# Altium footprint library FP-SMD-Passive.PcbLib: 73 footprints (part 2 of 5)
Each footprint in its own frame and in the unit in brackets; x right, y up, seen from the top. Pads: shape width x height; smd on the part's side, far side on the other; paste and mask are expansions set on the pad; w line width, h text height; cw(c..) or ccw(c..) is an arc to the next point about the centre after c.
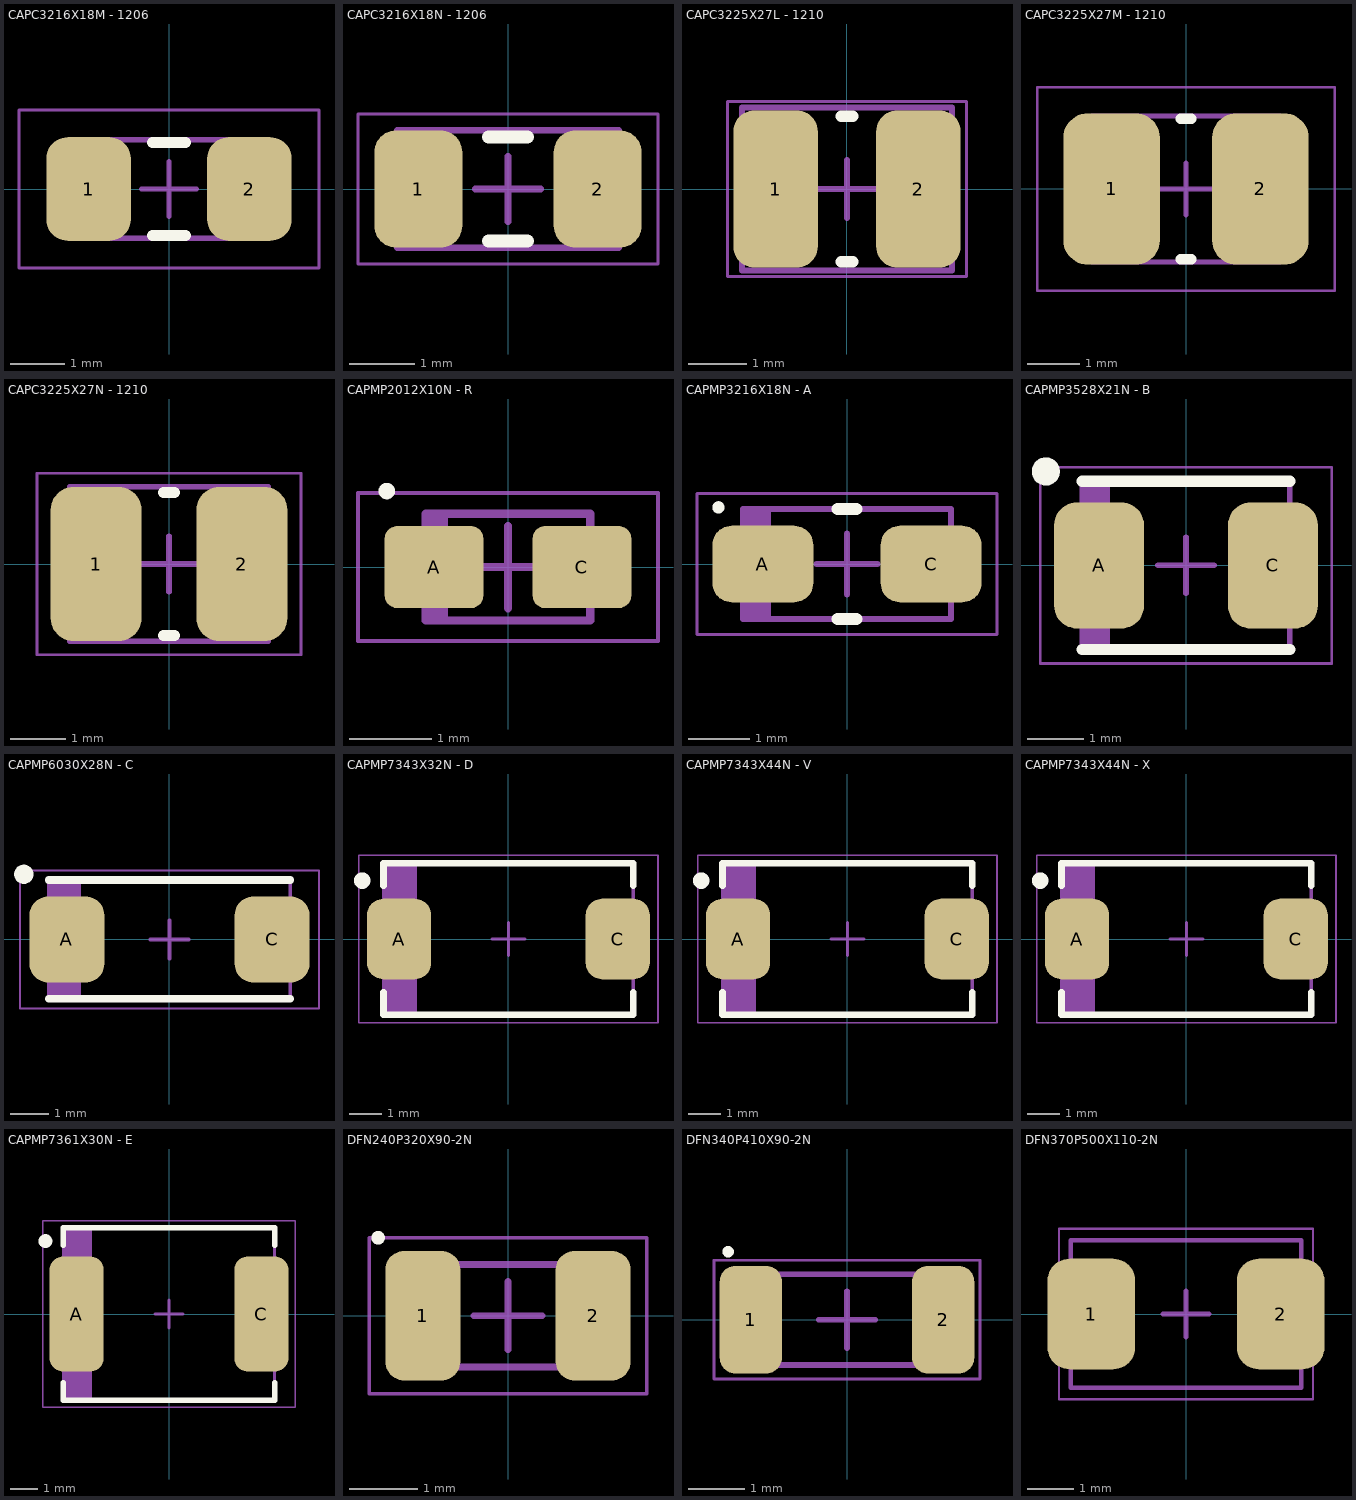
[diagram p1: the footprints below, top view; thin cyan lines are the x and y axes]

## CAPC3216X18M - 1206 [mm] "Chip Capacitor, 2-Leads, Body 3/20x1/60mm, IPC Low Density"
height 1.8
pads (2):
  rrect50% 1.55x1.9 smd: 1(-1.475,0) 2(1.475,0)
Top Overlay:
  lines w0.2: -0.3,-0.85 0.3,-0.85 ; -0.3,0.85 0.3,0.85
Top Courtyard:
  lines w0.05: -2.75,-1.45 2.75,-1.45 2.75,1.45 -2.75,1.45 -2.75,-1.45
  lines w0.1: -0.5,0 0.5,0 ; 0,-0.5 0,0.5
Top Assembly:
  lines w0.1: -1.7,-0.9 1.7,-0.9 1.7,0.9 -1.7,0.9 -1.7,-0.9
  text "'.Designator'" at 0.1,0.3 h0.6
3D body "CAPC3216X18M.step": height 1.8, standoff 0, extent -1.7,-0.9 1.7,0.9

## CAPC3216X18N - 1206 [mm] "Chip Capacitor, 2-Leads, Body 3/20x1/60mm, IPC Medium Density"
height 1.8
pads (2):
  rrect50% 1.35x1.8 smd: 1(-1.375,0) 2(1.375,0)
Top Overlay:
  lines w0.2: -0.3,-0.8 0.3,-0.8 ; -0.3,0.8 0.3,0.8
Top Courtyard:
  lines w0.05: -2.3,-1.15 2.3,-1.15 2.3,1.15 -2.3,1.15 -2.3,-1.15
  lines w0.1: -0.5,0 0.5,0 ; 0,-0.5 0,0.5
Top Assembly:
  lines w0.1: -1.7,-0.9 1.7,-0.9 1.7,0.9 -1.7,0.9 -1.7,-0.9
  text "'.Designator'" at 0.1,0.3 h0.6
3D body "CAPC3216X18N.step": height 1.8, standoff 0, extent -1.7,-0.9 1.7,0.9

## CAPC3225X27L - 1210 [mm] "Chip Capacitor, 2-Leads, Body 3/20x2/50mm, IPC High Density"
height 2.7
pads (2):
  rrect50% 1.45x2.7 smd: 1(-1.225,0) 2(1.225,0)
Top Overlay:
  lines w0.2: -0.1,-1.25 0.1,-1.25 ; -0.1,1.25 0.1,1.25
Top Courtyard:
  lines w0.05: -2.05,-1.5 2.05,-1.5 2.05,1.5 -2.05,1.5 -2.05,-1.5
  lines w0.1: -0.5,0 0.5,0 ; 0,-0.5 0,0.5
Top Assembly:
  lines w0.1: -1.8,-1.4 1.8,-1.4 1.8,1.4 -1.8,1.4 -1.8,-1.4
  text "'.Designator'" at 0.1,0.3 h0.6
3D body "CAPC3225X27L - 1210.step": height 2.7, standoff 0, extent -1.8,-1.4 1.8,1.4

## CAPC3225X27M - 1210 [mm] "Chip Capacitor, 2-Leads, Body 3/20x2/50mm, IPC Low Density"
height 2.7
pads (2):
  rrect50% 1.85x2.9 smd: 1(-1.425,0) 2(1.425,0)
Top Overlay:
  lines w0.2: -0.1,-1.35 0.1,-1.35 ; -0.1,1.35 0.1,1.35
Top Courtyard:
  lines w0.05: -2.85,-1.95 2.85,-1.95 2.85,1.95 -2.85,1.95 -2.85,-1.95
  lines w0.1: -0.5,0 0.5,0 ; 0,-0.5 0,0.5
Top Assembly:
  lines w0.1: -1.8,-1.4 1.8,-1.4 1.8,1.4 -1.8,1.4 -1.8,-1.4
  text "'.Designator'" at 0.1,0.3 h0.6
3D body "CAPC3225X27M - 1210.step": height 2.7, standoff 0, extent -1.8,-1.4 1.8,1.4

## CAPC3225X27N - 1210 [mm] "Chip Capacitor, 2-Leads, Body 3/20x2/50mm, IPC Medium Density"
height 2.7
pads (2):
  rrect50% 1.65x2.8 smd: 1(-1.325,0) 2(1.325,0)
Top Overlay:
  lines w0.2: -0.1,-1.3 0.1,-1.3 ; -0.1,1.3 0.1,1.3
Top Courtyard:
  lines w0.05: -2.4,-1.65 2.4,-1.65 2.4,1.65 -2.4,1.65 -2.4,-1.65
  lines w0.1: -0.5,0 0.5,0 ; 0,-0.5 0,0.5
Top Assembly:
  lines w0.1: -1.8,-1.4 1.8,-1.4 1.8,1.4 -1.8,1.4 -1.8,-1.4
  text "'.Designator'" at 0.1,0.3 h0.6
3D body "CAPC3225X27N - 1210.step": height 2.7, standoff 0, extent -1.8,-1.4 1.8,1.4

## CAPMP2012X10N - R [mm] "Molded Capacitor, 2-Leads, Body 2/00x1/25mm, IPC Medium Density"
height 1.2
pads (2):
  rrect30% 1.2x1 smd: A(-0.9,0) C(0.9,0)
Top Overlay:
  circle w0.1: c-1.475,0.925 r0.05
Top Courtyard:
  lines w0.05: -1.825,-0.9 -1.825,0.9 1.825,0.9 1.825,-0.9 -1.825,-0.9
  lines w0.1: -0.5,0 0.5,0 ; 0,-0.5 0,0.5
Top Assembly:
  rectangle: -1,-0.65 -0.731,0.65
  lines w0.1: -1,-0.65 -1,0.65 1,0.65 1,-0.65 -1,-0.65
  text "'.Designator'" at 0.12,0.353 h0.7
3D body "User Library-CaseR_2012-12.STEP": height 1.2, standoff 0, extent -1,-0.65 1,0.65

## CAPMP3216X18N - A [mm] "Molded Capacitor, 2-Leads, Body 3/20x1/60mm, IPC Medium Density"
height 1.8
pads (2):
  rrect50% 1.65x1.25 smd: A(-1.375,0) C(1.375,0)
Top Overlay:
  circle w0.1: c-2.1,0.925 r0.05
  lines w0.2: -0.15,-0.9 0.15,-0.9 ; -0.15,0.9 0.15,0.9
Top Courtyard:
  lines w0.05: -2.45,-1.15 2.45,-1.15 2.45,1.15 -2.45,1.15 -2.45,-1.15
  lines w0.1: -0.5,0 0.5,0 ; 0,-0.5 0,0.5
Top Assembly:
  rectangle: -1.7,-0.9 -1.243,0.9
  lines w0.1: -1.7,-0.9 1.7,-0.9 1.7,0.9 -1.7,0.9 -1.7,-0.9
  text "'.Designator'" at 0.12,0.353 h0.7
3D body "User Library-CaseA_3216-18.STEP": height 1.6, standoff 0, extent -1.6,-0.8 1.6,0.8

## CAPMP3528X21N - B [mm] "Molded Capacitor, 2-Leads, Body 3/50x2/80mm, IPC Medium Density"
height 2.1
pads (2):
  rrect50% 1.6x2.25 smd: A(-1.55,0) C(1.55,0)
Top Overlay:
  circle w0.25: c-2.5,1.675 r0.125
  lines w0.2: -1.85,-1.5 1.85,-1.5 ; -1.85,1.5 1.85,1.5
Top Courtyard:
  lines w0.05: -2.6,-1.75 -2.6,1.75 2.6,1.75 2.6,-1.75 -2.6,-1.75
  lines w0.1: -0.5,0 0.5,0 ; 0,-0.5 0,0.5
Top Assembly:
  rectangle: -1.85,-1.5 -1.352,1.5
  lines w0.1: -1.85,-1.5 -1.85,1.5 1.85,1.5 1.85,-1.5 -1.85,-1.5
  text "'.Designator'" at 0.12,0.353 h0.7
3D body "User Library-CaseB_3528-21.STEP": height 1.9, standoff 0, extent -1.75,-1.4 1.75,1.4

## CAPMP6030X28N - C [mm] "Molded Capacitor, 2-Leads, Body 6/00x3/00mm, IPC Medium Density"
height 2.8
pads (2):
  rrect50% 1.95x2.25 smd: A(-2.675,0) C(2.675,0)
Top Overlay:
  circle w0.25: c-3.8,1.7 r0.125
  lines w0.2: -3.15,-1.55 3.15,-1.55 ; -3.15,1.55 3.15,1.55
Top Courtyard:
  lines w0.05: -3.9,-1.8 3.9,-1.8 3.9,1.8 -3.9,1.8 -3.9,-1.8
  lines w0.1: -0.5,0 0.5,0 ; 0,-0.5 0,0.5
Top Assembly:
  rectangle: -3.15,-1.55 -2.303,1.55
  lines w0.1: -3.15,-1.55 3.15,-1.55 3.15,1.55 -3.15,1.55 -3.15,-1.55
  text "'.Designator'" at 0.12,0.353 h0.7
3D body "User Library-CaseC_6032-28.STEP": height 2.5, standoff 0, extent -3,-1.6 3,1.6

## CAPMP7343X32N - D [mm] "Molded Capacitor, 2-Leads, Body 7/30x4/30mm, IPC Medium Density"
height 3.2
pads (2):
  rrect50% 1.95x2.45 smd: A(-3.325,0) C(3.325,0)
Top Overlay:
  circle w0.25: c-4.45,1.775 r0.125
  lines w0.2: -3.8,-1.625 -3.8,-2.3 3.8,-2.3 3.8,-1.625 ; -3.8,1.625 -3.8,2.3 3.8,2.3 3.8,1.625
Top Courtyard:
  lines w0.05: -4.55,-2.55 -4.55,2.55 4.55,2.55 4.55,-2.55 -4.55,-2.55
  lines w0.1: -0.5,0 0.5,0 ; 0,-0.5 0,0.5
Top Assembly:
  rectangle: -3.8,-2.3 -2.778,2.3
  lines w0.1: -3.8,-2.3 -3.8,2.3 3.8,2.3 3.8,-2.3 -3.8,-2.3
  text "'.Designator'" at 0.12,0.353 h0.7
3D body "User Library-CaseD_7343-31.STEP": height 2.8, standoff 0, extent -3.65,-2.15 3.65,2.15

## CAPMP7343X44N - V [mm] "Molded Capacitor, 2-Leads, Body 7/30x4/30mm, IPC Medium Density"
height 2
pads (2):
  rrect50% 1.95x2.45 smd: A(-3.325,0) C(3.325,0)
Top Overlay:
  circle w0.25: c-4.45,1.775 r0.125
  lines w0.2: -3.8,-1.625 -3.8,-2.3 3.8,-2.3 3.8,-1.625 ; -3.8,1.625 -3.8,2.3 3.8,2.3 3.8,1.625
Top Courtyard:
  lines w0.05: -4.55,-2.55 4.55,-2.55 4.55,2.55 -4.55,2.55 -4.55,-2.55
  lines w0.1: -0.5,0 0.5,0 ; 0,-0.5 0,0.5
Top Assembly:
  rectangle: -3.8,-2.3 -2.778,2.3
  lines w0.1: -3.8,-2.3 3.8,-2.3 3.8,2.3 -3.8,2.3 -3.8,-2.3
  text "'.Designator'" at 0.12,0.353 h0.7
3D body "User Library-CaseV_7343-20.STEP": height 2, standoff 0, extent -3.65,-2.15 3.65,2.15

## CAPMP7343X44N - X [mm] "Molded Capacitor, 2-Leads, Body 7/30x4/30mm, IPC Medium Density"
height 4.4
pads (2):
  rrect50% 1.95x2.45 smd: A(-3.325,0) C(3.325,0)
Top Overlay:
  circle w0.25: c-4.45,1.775 r0.125
  lines w0.2: -3.8,-1.625 -3.8,-2.3 3.8,-2.3 3.8,-1.625 ; -3.8,1.625 -3.8,2.3 3.8,2.3 3.8,1.625
Top Courtyard:
  lines w0.05: -4.55,-2.55 -4.55,2.55 4.55,2.55 4.55,-2.55 -4.55,-2.55
  lines w0.1: -0.5,0 0.5,0 ; 0,-0.5 0,0.5
Top Assembly:
  rectangle: -3.8,-2.3 -2.778,2.3
  lines w0.1: -3.8,-2.3 -3.8,2.3 3.8,2.3 3.8,-2.3 -3.8,-2.3
  text "'.Designator'" at 0.12,0.353 h0.7
3D body "User Library-CaseX_7343-43.STEP": height 4, standoff 0, extent -3.65,-2.15 3.65,2.15

## CAPMP7361X30N - E [mm] "Molded Capacitor, 2-Leads, Body 7/30x6/10mm, IPC Medium Density"
height 3
pads (2):
  rrect50% 1.95x4.15 smd: A(-3.325,0) C(3.325,0)
Top Overlay:
  circle w0.25: c-4.45,2.625 r0.125
  lines w0.2: -3.8,-2.475 -3.8,-3.1 3.8,-3.1 3.8,-2.475 ; -3.8,2.475 -3.8,3.1 3.8,3.1 3.8,2.475
Top Courtyard:
  lines w0.05: -4.55,-3.35 -4.55,3.35 4.55,3.35 4.55,-3.35 -4.55,-3.35
  lines w0.1: -0.5,0 0.5,0 ; 0,-0.5 0,0.5
Top Assembly:
  rectangle: -3.8,-3.1 -2.778,3.1
  lines w0.1: -3.8,-3.1 -3.8,3.1 3.8,3.1 3.8,-3.1 -3.8,-3.1
  text "'.Designator'" at 0.12,0.353 h0.7
3D body "User Library-CaseE_7260-38.STEP": height 3.6, standoff 0, extent -3.65,-3 3.65,3

## DFN240P320X90-2N [mm] "DFN, 2-Leads, Body 1/50x3/20mm, Pitch 2/40mm, IPC Medium Density"
height 0.9
pads (2):
  rrect50% 1.1x1.9 smd: 1(-1.25,0) 2(1.25,0)
Top Overlay:
  circle w0.1: c-1.905,1.143 r0.05
Top Courtyard:
  lines w0.05: -2.032,-1.143 2.032,-1.143 2.032,1.143 -2.032,1.143 -2.032,-1.143
  lines w0.1: -0.5,0 0.5,0 ; 0,-0.5 0,0.5
Top Assembly:
  lines w0.1: -1.6,-0.75 1.6,-0.75 1.6,0.75 -1.6,0.75 -1.6,-0.75
  text "'.Designator'" at 0.1,0.3 h0.6
3D body "NX3215SA.step": height 0.85, standoff 0.05, extent -1.6,-0.75 1.6,0.75

## DFN340P410X90-2N [mm] "DFN, 2-Leads, Body 1/50x4/10mm, Pitch 3/40mm, IPC Medium Density"
height 0.9
pads (2):
  rrect50% 1.1x1.9 smd: 1(-1.7,0) 2(1.7,0)
Top Overlay:
  circle w0.1: c-2.1,1.2 r0.05
Top Courtyard:
  lines w0.05: -2.35,-1.05 -2.35,1.05 2.35,1.05 2.35,-1.05 -2.35,-1.05
  lines w0.1: -0.5,0 0.5,0 ; 0,-0.5 0,0.5
Top Assembly:
  lines w0.1: -2.1,-0.8 -2.1,0.8 2.1,0.8 2.1,-0.8 -2.1,-0.8
  text "'.Designator'" at 0.1,0.3 h0.6
3D body "DFN340P410X90-2N.step": height 0.9, standoff 0, extent -2.1,-0.8 2.1,0.8

## DFN370P500X110-2N [mm] "DFN, 2-Leads, Body 3/20x5/00mm, Pitch 3/70mm, IPC Medium Density"
height 1.1
pads (2):
  rrect50% 1.9x2.4 smd: 1(-2.05,0) 2(2.05,0)
Top Courtyard:
  lines w0.05: -2.75,-1.85 2.75,-1.85 2.75,1.85 -2.75,1.85 -2.75,-1.85
  lines w0.1: -0.5,0 0.5,0 ; 0,-0.5 0,0.5
Top Assembly:
  lines w0.1: -2.5,-1.6 2.5,-1.6 2.5,1.6 -2.5,1.6 -2.5,-1.6
  text "'.Designator'" at 0.1,0.3 h0.6
3D body "xtal_osc_5x3.2.step": height 1, standoff -0.01, extent -2.496,-1.6 2.496,1.6